# Altium schematic symbol library WE-OLEFD.SchLib: 7 symbols
Pins are listed as number, name and electrical type; pins without a type are passive.

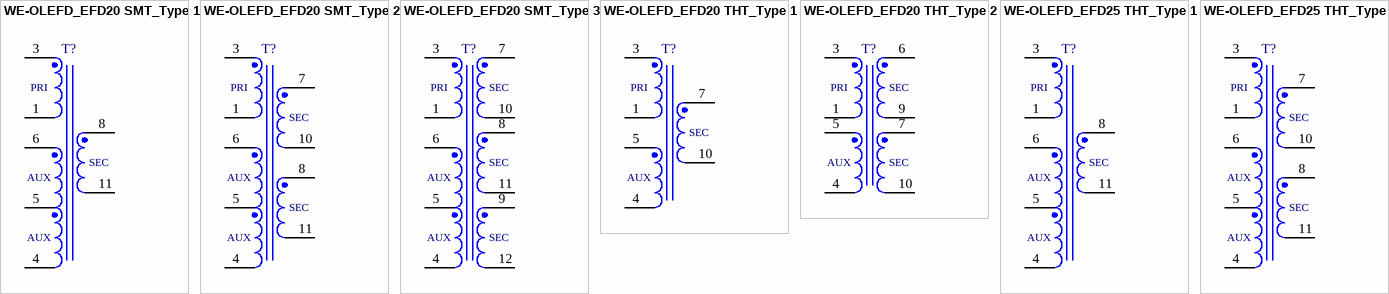
[diagram p0: symbols WE-OLEFD_EFD20 SMT_Type 1 to WE-OLEFD_EFD25 THT_Type 2]

## WE-OLEFD_EFD20 SMT_Type 1
designator T?
pins: 1, 3, 4, 5, 6, 8, 11
text: PRI; SEC; AUX

## WE-OLEFD_EFD20 SMT_Type 2
designator T?
pins: 1, 3, 4, 5, 6, 7, 8, 10, 11
text: PRI; SEC; AUX

## WE-OLEFD_EFD20 SMT_Type 3
designator T?
pins: 1, 3, 4, 5, 6, 7, 8, 9, 10, 11, 12
text: PRI; SEC; AUX

## WE-OLEFD_EFD20 THT_Type 1
designator T?
pins: 1, 3, 4, 5, 7, 10
text: PRI; SEC; AUX

## WE-OLEFD_EFD20 THT_Type 2
designator T?
pins: 1, 3, 4, 5, 6, 7, 9, 10
text: PRI; SEC; AUX

## WE-OLEFD_EFD25 THT_Type 1
designator T?
pins: 1, 3, 4, 5, 6, 8, 11
text: PRI; SEC; AUX

## WE-OLEFD_EFD25 THT_Type 2
designator T?
pins: 1, 3, 4, 5, 6, 7, 8, 10, 11
text: PRI; SEC; AUX